# Altium footprint library MAX3420E_Cape.PcbLib: 7 footprints
Each footprint in its own frame and in the unit in brackets; x right, y up, seen from the top. Pads: shape width x height; smd on the part's side, far side on the other; paste and mask are expansions set on the pad; w line width, h text height; cw(c..) or ccw(c..) is an arc to the next point about the centre after c.
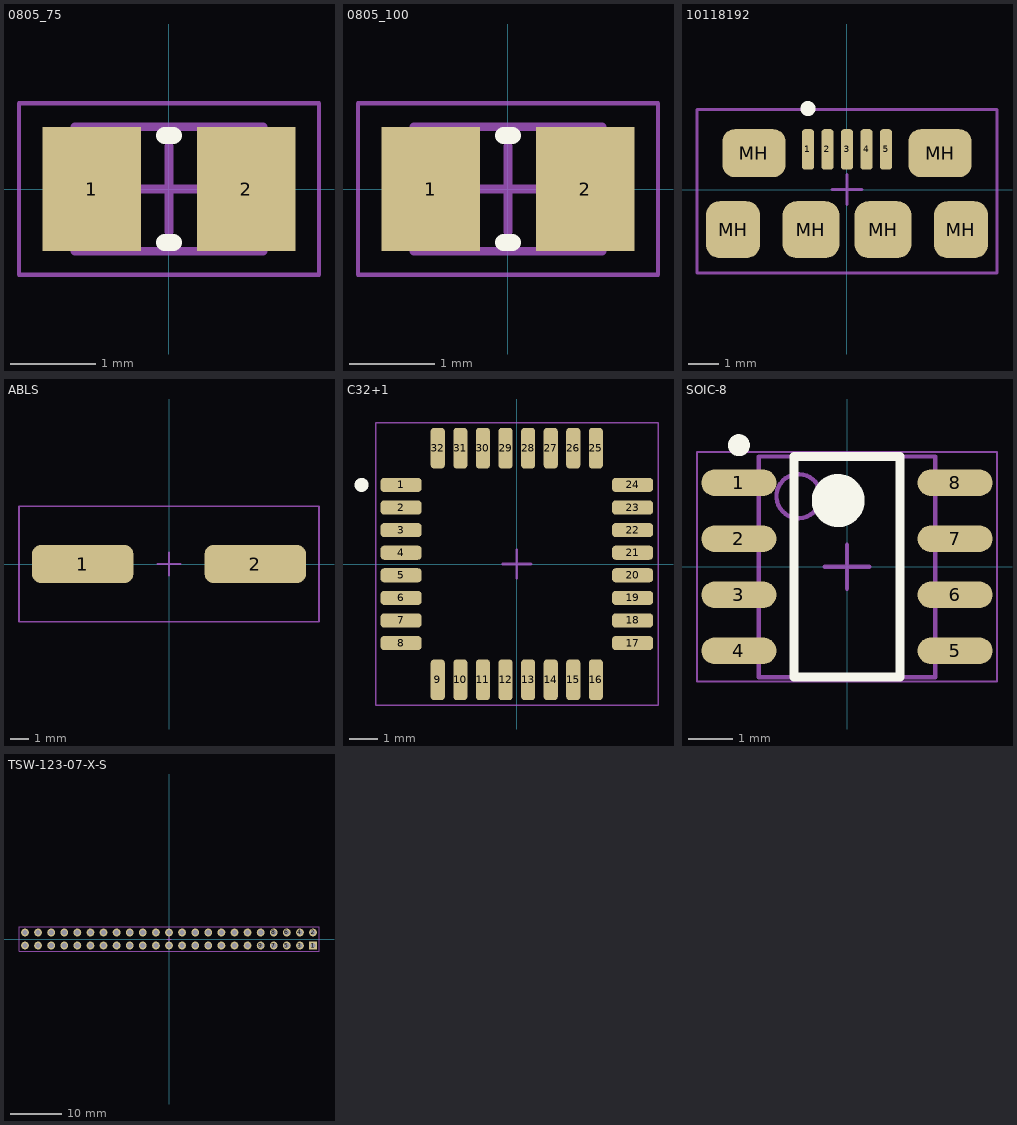
[diagram p0: the footprints below, top view; thin cyan lines are the x and y axes]

## 0805_75 [mm] "IPC 0805 Medium Density Footprint"
height 0.75
pads (2):
  rect 1.15x1.45 smd: 1(-0.9,0) 2(0.9,0)
Top Overlay:
  lines w0.2: -0.05,-0.625 0.05,-0.625 ; -0.05,0.625 0.05,0.625
3D Top:
  lines w0.1: -1.1,-0.725 1.1,-0.725 1.1,0.725 -1.1,0.725 -1.1,-0.725
Courtyard Top:
  lines w0.05: -1.75,-1 1.75,-1 1.75,1 -1.75,1 -1.75,-1
  lines w0.1: -0.5,0 0.5,0 ; 0,-0.5 0,0.5
3D body: height 0.75, standoff 0, extent 0.6,-0.725 1.1,0.725
3D body: height 0.75, standoff 0, extent -1.1,-0.725 -0.6,0.725
3D body: height 0.75, standoff 0, extent -0.6,-0.725 0.6,0.725

## 0805_100 [mm] "IPC 0805 Medium Density Footprint"
height 1
pads (2):
  rect 1.15x1.45 smd: 1(-0.9,0) 2(0.9,0)
Top Overlay:
  lines w0.2: -0.05,-0.625 0.05,-0.625 ; -0.05,0.625 0.05,0.625
3D Top:
  lines w0.1: -1.1,-0.725 -1.1,0.725 1.1,0.725 1.1,-0.725 -1.1,-0.725
Courtyard Top:
  lines w0.05: -1.75,-1 -1.75,1 1.75,1 1.75,-1 -1.75,-1
  lines w0.1: -0.5,0 0.5,0 ; 0,-0.5 0,0.5
3D body: height 1, standoff 0, extent -0.6,-0.725 0.6,0.725
3D body: height 1, standoff 0, extent -1.1,-0.725 -0.6,0.725
3D body: height 1, standoff 0, extent 0.6,-0.725 1.1,0.725

## 10118192 [mm] "Surface Mount USB 2.0 Micro-B Connector with Flange"
height 2.7
pads (11):
  rrect50% 0.4x1.35 smd: 1(-1.3,1.338) 2(-0.65,1.338) 3(0,1.338) 4(0.65,1.338) 5(1.3,1.338)
  rrect50% 1.8x1.9 smd: MH(-3.8,-1.337) MH(3.8,-1.337)
  rrect50% 2.1x1.6 smd: MH(-3.1,1.213) MH(3.1,1.213)
  rrect50% 1.9x1.9 smd: MH(-1.2,-1.337) MH(1.2,-1.337)
Top Overlay:
  circle w0.25: c-1.3,2.7 r0.125
Courtyard Top:
  lines w0.1: -0.5,0 0.5,0 ; 0,-0.5 0,0.5 ; -5,-2.787 5,-2.787 5,2.663 -5,2.663 -5,-2.787
3D body: height 2.74, standoff -0.27, extent -3.956,-4.137 3.956,1.523

## ABLS [mm] "Abracon ABLS Crystal Package"
height 4.2
pads (2):
  rrect50% 5.6x2.1 smd: 1(-4.75,0) 2(4.75,0)
Courtyard Top:
  lines w0.1: -0.635,0 0.635,0 ; 0,-0.635 0,0.635 ; -8.255,-3.175 8.255,-3.175 8.255,3.175 -8.255,3.175 -8.255,-3.175
3D body: height 4, standoff 0, extent -6.65,-2.425 6.65,2.425

## C32+1 [mm] "32-pin LQFP package"
height 1.6
pads (32):
  rrect50% 1.45x0.5 smd: 1(-4.1,2.8) 2(-4.1,2) 3(-4.1,1.2) 4(-4.1,0.4) 5(-4.1,-0.4) 6(-4.1,-1.2) 7(-4.1,-2) 8(-4.1,-2.8) 17(4.1,-2.8) 18(4.1,-2) 19(4.1,-1.2) 20(4.1,-0.4) 21(4.1,0.4) 22(4.1,1.2) 23(4.1,2) 24(4.1,2.8)
  rrect50% 0.5x1.45 smd: 9(-2.8,-4.1) 10(-2,-4.1) 11(-1.2,-4.1) 12(-0.4,-4.1) 13(0.4,-4.1) 14(1.2,-4.1) 15(2,-4.1) 16(2.8,-4.1) 25(2.8,4.1) 26(2,4.1) 27(1.2,4.1) 28(0.4,4.1) 29(-0.4,4.1) 30(-1.2,4.1) 31(-2,4.1) 32(-2.8,4.1)
Top Overlay:
  circle w0.25: c-5.5,2.8 r0.125
Courtyard Top:
  lines w0.05: -5,-5 -5,5 5,5 5,-5 -5,-5
  lines w0.1: -0.5,0 0.5,0 ; 0,-0.5 0,0.5
3D body: height 2.41, standoff 0.68, extent -4.5,-4.5 4.5,4.5

## SOIC-8 [mm] "SOIC 8, 3.9mmx3.9mm"
height 1.6
pads (8):
  oval 1.7x0.6 smd: 1(-2.45,1.905) 2(-2.45,0.635) 3(-2.45,-0.635) 4(-2.45,-1.905) 5(2.45,-1.905) 6(2.45,-0.635) 7(2.45,0.635) 8(2.45,1.905)
Top Overlay:
  circle w0.6: c-0.2,1.5 r0.3
  circle w0.25: c-2.45,2.755 r0.125
  lines w0.2: -1.2,-2.5 1.2,-2.5 1.2,2.5 -1.2,2.5 -1.2,-2.5
3D Top:
  circle w0.1: c-1.1,1.6 r0.5
  lines w0.1: -2,-2.5 2,-2.5 2,2.5 -2,2.5 -2,-2.5
Courtyard Top:
  lines w0.05: -3.4,-2.6 3.4,-2.6 3.4,2.6 -3.4,2.6 -3.4,-2.6
  lines w0.1: -0.5,0 0.5,0 ; 0,-0.5 0,0.5
3D body: height 1.75, standoff 0, extent -3,-2.45 3,2.45

## TSW-123-07-X-S [mil] "46-pin 100-mil header"
pads (46):
  rect 60x60 hole 40: 1(1100,-50)
  round 60 hole 40: 2(1100,50) 3(1000,-50) 4(1000,50) 5(900,-50) 6(900,50) 7(800,-50) 8(800,50) 9(700,-50) 10(700,50) 11(600,-50) 12(600,50) 13(500,-50) 14(500,50) 15(400,-50) 16(400,50) 17(300,-50) 18(300,50) 19(200,-50) 20(200,50) 21(100,-50) 22(100,50) 23(0,-50) 24(0,50) 25(-100,-50) 26(-100,50) 27(-200,-50) 28(-200,50) 29(-300,-50) 30(-300,50) 31(-400,-50) 32(-400,50) 33(-500,-50) 34(-500,50) 35(-600,-50) 36(-600,50) 37(-700,-50) 38(-700,50) 39(-800,-50) 40(-800,50) 41(-900,-50) 42(-900,50) 43(-1000,-50) 44(-1000,50) 45(-1100,-50) 46(-1100,50)
Bottom Overlay:
  text "1" at 1185,-70 h60
  text "45" at -1155,-70 h60
Courtyard Top:
  lines w1.97: -15.75,0 15.75,0 ; 0,-15.75 0,15.75
  lines w3.94: -1145.67,-94.49 -1145.67,94.49 1145.67,94.49 1145.67,-94.49 -1145.67,-94.49
3D body: height 408.48, standoff -124.52, extent 1054,-92 1146,92
3D body: height 408.48, standoff -124.52, extent 954,-92 1046,92
3D body: height 408.48, standoff -124.52, extent 754,-92 846,92
3D body: height 408.48, standoff -124.52, extent 854,-92 946,92
3D body: height 408.48, standoff -124.52, extent 554,-92 646,92
3D body: height 408.48, standoff -124.52, extent 654,-92 746,92
3D body: height 408.48, standoff -124.52, extent 354,-92 446,92
3D body: height 408.48, standoff -124.52, extent 454,-92 546,92
3D body: height 408.48, standoff -124.52, extent 154,-92 246,92
3D body: height 408.48, standoff -124.52, extent 254,-92 346,92
3D body: height 408.48, standoff -124.52, extent -46,-92 46,92
3D body: height 408.48, standoff -124.52, extent 54,-92 146,92
3D body: height 408.48, standoff -124.52, extent -246,-92 -154,92
3D body: height 408.48, standoff -124.52, extent -146,-92 -54,92
3D body: height 408.48, standoff -124.52, extent -446,-92 -354,92
3D body: height 408.48, standoff -124.52, extent -346,-92 -254,92
3D body: height 408.48, standoff -124.52, extent -646,-92 -554,92
3D body: height 408.48, standoff -124.52, extent -546,-92 -454,92
3D body: height 408.48, standoff -124.52, extent -846,-92 -754,92
3D body: height 408.48, standoff -124.52, extent -746,-92 -654,92
3D body: height 408.48, standoff -124.52, extent -1046,-92 -954,92
3D body: height 408.48, standoff -124.52, extent -946,-92 -854,92
3D body: height 408.48, standoff -124.52, extent -1146,-92 -1054,92